# Altium footprint library SC_PDIP36.PcbLib: 1 footprints
Each footprint in its own frame and in the unit in brackets; x right, y up, seen from the top. Pads: shape width x height; smd on the part's side, far side on the other; paste and mask are expansions set on the pad; w line width, h text height; cw(c..) or ccw(c..) is an arc to the next point about the centre after c.
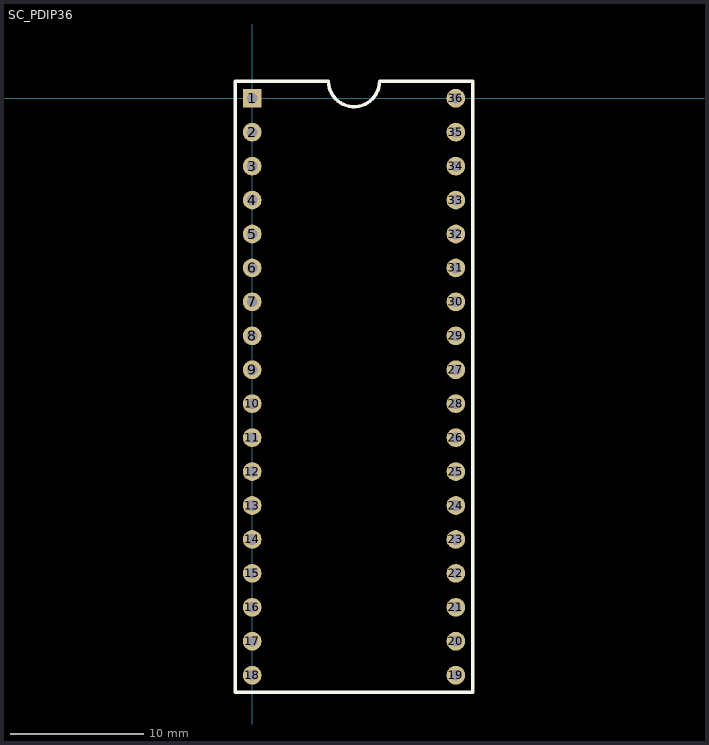
[diagram p0: the footprint, top view; thin cyan lines are the x and y axes]

## SC_PDIP36 [mm] "PDIP36"
pads (36):
  rect 1.4x1.4 hole 0.8: 1(0,0)
  round 1.4 hole 0.8: 2(0,-2.54) 3(0,-5.08) 4(0,-7.62) 5(0,-10.16) 6(0,-12.7) 7(0,-15.24) 8(0,-17.78) 9(0,-20.32) 10(0,-22.86) 11(0,-25.4) 12(0,-27.94) 13(0,-30.48) 14(0,-33.02) 15(0,-35.56) 16(0,-38.1) 17(0,-40.64) 18(0,-43.18) 19(15.24,-43.18) 20(15.24,-40.64) 21(15.24,-38.1) 22(15.24,-35.56) 23(15.24,-33.02) 24(15.24,-30.48) 25(15.24,-27.94) 26(15.24,-25.4) 27(15.24,-20.32) 28(15.24,-22.86) 29(15.24,-17.78) 30(15.24,-15.24) 31(15.24,-12.7) 32(15.24,-10.16) 33(15.24,-7.62) 34(15.24,-5.08) 35(15.24,-2.54) 36(15.24,0)
Top Overlay:
  lines w0.254: -1.27,-44.45 16.51,-44.45 16.51,1.27 9.525,1.27 cw(c7.62,1.27) 5.715,1.27 -1.27,1.27 -1.27,-44.45